# Altium schematic symbol library Schematics_Connectors.SchLib: 5 symbols
Pins are listed as number, name and electrical type; pins without a type are passive.

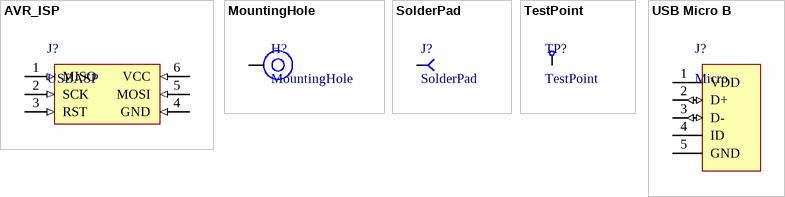
[diagram p0: symbols AVR_ISP to USB Micro B]

## AVR_ISP
designator J?, comment USBASP
Programmer connector
footprint AVR_ISP
pins: 1 MISO (in), 2 SCK (in), 3 RST (in), 4 GND (in), 5 MOSI (in), 6 VCC (in)

## MountingHole
designator H?
Mounting Hole
footprint MountinHoleM3
pins: 1

## SolderPad
designator J?
footprint Pad_2.5mm
pins: 1

## TestPoint
designator TP?
footprint Pad_2.5mm
pins: 1

## USB Micro B
designator J?, comment Micro
USB B Micro; Manufacturer Part: 105017-0001; ComponentLink1Description: Kondik; ComponentLink1URL: https://www.kondik.cz/konektor-usb-2-0-micro-b-105017-0001/; ComponentLink2Description: Mouser; ComponentLink2URL: https://cz.mouser.com/ProductDetail/Molex/105017-0001?qs=hlXxxvYE36k7QcsR97GUKA%3D%3D; ComponentLink3Description: Datasheet; ComponentLink3URL: https://www.molex.com/content/dam/molex/molex-dot-com/products/automated/en-us/salesdrawingpdf/105/105017/1050170001_sd.pdf
footprint USB_B_Micro
pins: 1 VDD (power), 2 D+ (io), 3 D- (io), 4 ID, 5 GND (power)